# Altium footprint library Wurth_Elektronik_Passive_rev16a.PCBLIB: 810 footprints (part 1 of 51)
Each footprint in its own frame and in the unit in brackets; x right, y up, seen from the top. Pads: shape width x height; smd on the part's side, far side on the other; paste and mask are expansions set on the pad; w line width, h text height; cw(c..) or ccw(c..) is an arc to the next point about the centre after c.
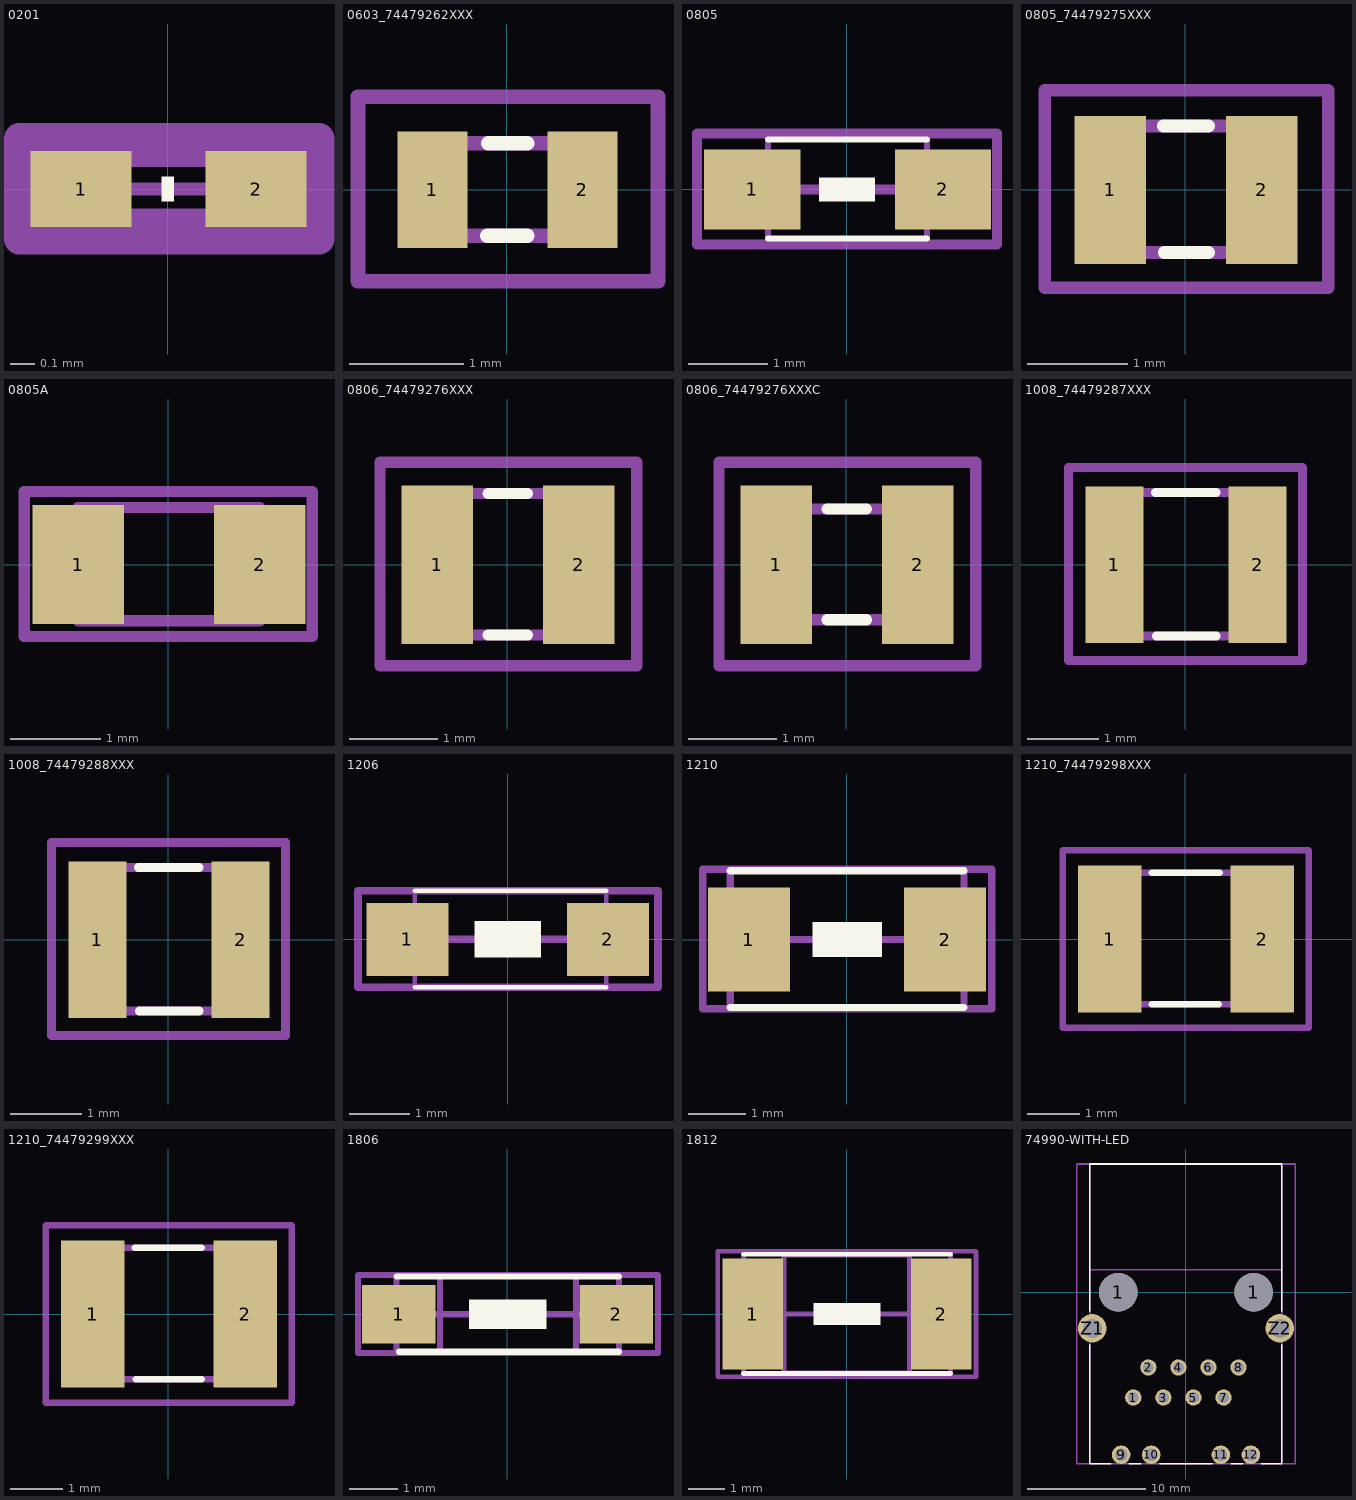
[diagram p0: the footprints below, top view; thin cyan lines are the x and y axes]

## 0201 [mil]
pads (2):
  rect 16x12 smd: 1(-13.78,0) 2(14,0)
Top Overlay:
  rectangle: -0.98,-1.97 1,2
Mechanical 2:
  text ">NAME" at -60,-45 h37.2
Mechanical 4:
  text ">VALUE" at -60,23 h37.2
Mechanical 16:
  lines w2: -13.78,0 14,0
  lines w5: -21.59,6 -21.59,-5.56 22,-5.56 22,6 -21.54,6
Mechanical 27:
  lines w5: -23.62,-7.87 24,-7.87 24,8 -23.62,8 -23.62,-7.87

## 0603_74479262XXX [mil]
pads (2):
  rect 24x40 smd: 1(-25.59,0) 2(26,0)
Top Overlay:
  lines w5: -6.69,-15.75 7,-15.75 ; -6.3,16 7,16
Mechanical 2:
  text ">Name" at -47.24,52 h37.2
Mechanical 4:
  text ">Value" at -51.18,-62.99 h37.2
Mechanical 16:
  lines w5: -31.5,-15.75 32,-15.75 32,16 -31.5,16 -31.5,-15.75
Mechanical 27:
  lines w5: -51.18,-31.5 52,-31.5 52,32 -51.18,32 -51.18,-31.5

## 0805 [mil]
pads (2):
  rect 48x40 smd: 1(-47.24,0) 2(48,0)
Top Overlay:
  rectangle: -13.78,-5.91 14,6
  lines w3: -39.37,-24.61 40,-24.61 ; -39.37,25 40,25
Mechanical 2:
  text ">NAME" at -75,-101.87 h77.5
Mechanical 4:
  text ">VALUE" at -75,38 h77.5
Mechanical 16:
  lines w3: -39.37,-24.61 -39.37,25 ; 40,-24.61 40,25
  lines w5: -51.18,0 48,0
Mechanical 27:
  lines w5: -74.8,-27.56 75,-27.56 75,28 -74.8,28 -74.8,-27.56

## 0805_74479275XXX [mil]
pads (2):
  rect 28x58 smd: 1(-29.53,0) 2(30,0)
Top Overlay:
  lines w5: -8.66,25 9,25 ; -8.27,-24.61 9,-24.61
Mechanical 2:
  text ">Name" at -47.24,56 h37.2
Mechanical 4:
  text ">Value" at -51.18,-70.87 h37.2
Mechanical 16:
  lines w5: -39.37,-24.61 40,-24.61 40,25 -39.37,25 -39.37,-24.61
Mechanical 27:
  lines w5: -55.12,-38.39 56,-38.39 56,39 -55.12,39 -55.12,-38.39

## 0805A [mil]
pads (2):
  rect 40x52 smd: 1(-39.37,0) 2(40,0)
Mechanical 2:
  text ">NAME" at -106.3,-86.61 h77.5
Mechanical 4:
  text ">VALUE" at -106.3,36 h77.5
Mechanical 16:
  lines w5: -39.37,-24.61 40,-24.61 40,25 -39.37,25 -39.37,-24.61
Mechanical 27:
  lines w5: -62.99,-31.5 63,-31.5 63,32 -62.99,32 -62.99,-31.5

## 0806_74479276XXX [mil]
pads (2):
  rect 32x71 smd: 1(-31.5,0) 2(32,0)
Top Overlay:
  lines w5: -8.66,-31.5 9,-31.5 ; -8.66,32 9,32
Mechanical 2:
  text ">Name" at -55.12,63 h37.2
Mechanical 4:
  text ">Value" at -51.18,-78.74 h37.2
Mechanical 16:
  lines w5: -39.37,-31.5 40,-31.5 40,32 -39.37,32 -39.37,-31.5
Mechanical 27:
  lines w5: -57.09,-45.28 58,-45.28 58,46 -57.09,46 -57.09,-45.28

## 0806_74479276XXXC [mil]
pads (2):
  rect 32x71 smd: 1(-31.5,0) 2(32,0)
Top Overlay:
  lines w5: -8.66,-24.61 9,-24.61 ; -8.66,25 9,25
Mechanical 2:
  text ">Name" at -48.43,62 h37.2
Mechanical 4:
  text ">Value" at -48.43,-75.59 h37.2
Mechanical 16:
  lines w5: -39.37,-24.61 40,-24.61 40,25 -39.37,25 -39.37,-24.61
Mechanical 27:
  lines w5: -57.09,-45.28 58,-45.28 58,46 -57.09,46 -57.09,-45.28

## 1008_74479287XXX [mil]
pads (2):
  rect 32x87 smd: 1(-39.37,0) 2(40,0)
Top Overlay:
  lines w5: -16.54,40 17,40 ; -16.14,-39.37 17,-39.37
Mechanical 2:
  text ">Name" at -80.71,78 h62
Mechanical 4:
  text ">Value" at -83.86,-104.33 h62
Mechanical 16:
  lines w5: -49.21,-39.37 50,-39.37 50,40 -49.21,40 -49.21,-39.37
Mechanical 27:
  lines w5: -64.96,-53.15 65,-53.15 65,54 -64.96,54 -64.96,-53.15

## 1008_74479288XXX [mil]
pads (2):
  rect 32x87 smd: 1(-39.37,0) 2(40,0)
Top Overlay:
  lines w5: -16.54,40 17,40 ; -16.14,-39.37 17,-39.37
Mechanical 2:
  text ">Name" at -66.14,81 h62
Mechanical 4:
  text ">Value" at -84.25,-104.72 h62
Mechanical 16:
  lines w5: -49.21,-39.37 50,-39.37 50,40 -49.21,40 -49.21,-39.37
Mechanical 27:
  lines w5: -64.96,-53.15 65,-53.15 65,54 -64.96,54 -64.96,-53.15

## 1206 [mil]
pads (2):
  rect 54x48 smd: 1(-65.94,0) 2(66,0)
Top Overlay:
  rectangle: -21.65,-11.81 22,12
  lines w3: -61.02,-31.5 65,-31.5 ; -61.02,32 65,32
Mechanical 2:
  text ">NAME" at -109.84,-101.87 h77.5
Mechanical 4:
  text ">VALUE" at -109.84,38 h77.5
Mechanical 16:
  lines w3: -61.02,-31.5 -61.02,32 ; 65,-31.5 65,32
  lines w5: -64.96,0 69,0
Mechanical 27:
  lines w5: -98.43,-31.5 99,-31.5 99,32 -98.43,32 -98.43,-31.5

## 1210 [mil]
pads (2):
  rect 56x71 smd: 1(-66.93,0) 2(67,0)
Top Overlay:
  rectangle: -23.62,-11.81 24,12
  lines w5: -79.63,-46.37 80,-46.37 ; -79.63,47 80,47
Mechanical 2:
  text ">NAME" at -107.87,-129.43 h77.5
Mechanical 4:
  text ">VALUE" at -107.87,58 h77.5
Mechanical 16:
  lines w5: -79.63,-46.37 -79.63,47 ; -66.93,0 71,0 ; 80,-46.37 80,47
Mechanical 27:
  lines w5: -98.43,-47.24 99,-47.24 99,48 -98.43,48 -98.43,-47.24

## 1210_74479298XXX [mil]
pads (2):
  rect 48x111 smd: 1(-57.09,0) 2(58,0)
Top Overlay:
  lines w5: -25.2,-49.21 25,-49.21 ; -25.2,50 26,50
Mechanical 2:
  text ">Name" at -105.91,98 h77.5
Mechanical 4:
  text ">Value" at -102.76,-136.61 h77.5
Mechanical 16:
  lines w5: -62.99,-49.21 63,-49.21 63,50 -62.99,50 -62.99,-49.21
Mechanical 27:
  lines w5: -92.52,-66.93 93,-66.93 93,67 -92.52,67 -92.52,-66.93

## 1210_74479299XXX [mil]
pads (2):
  rect 48x111 smd: 1(-57.09,0) 2(58,0)
Top Overlay:
  lines w5: -25.2,50 25,50 ; -24.41,-49.21 25,-49.21
Mechanical 2:
  text ">Name" at -117.32,88 h77.5
Mechanical 4:
  text ">Value" at -96.46,-131.1 h77.5
Mechanical 16:
  lines w5: -62.99,-49.21 63,-49.21 63,50 -62.99,50 -62.99,-49.21
Mechanical 27:
  lines w5: -92.52,-66.93 93,-66.93 93,67 -92.52,67 -92.52,-66.93

## 1806 [mil]
pads (2):
  rect 60x48 smd: 1(-88.58,0) 2(89,0)
Top Overlay:
  rectangle: -31.5,-11.81 32,12
  lines w5: -90.57,31 91,31 ; -88.6,-30.63 91,-30.63
Mechanical 2:
  text ">NAME" at -112.5,-101.87 h77.5
Mechanical 4:
  text ">VALUE" at -112.5,38 h77.5
Mechanical 10:
  lines w5: -55.12,-31.5 56,-31.5 56,32 -55.12,32 -55.12,-31.5
Mechanical 16:
  lines w5: -90.57,-30.63 -90.57,31 ; -88.58,0 87,0 ; 91,-30.63 91,31
Mechanical 27:
  lines w5: -122.05,-31.5 123,-31.5 123,32 -122.05,32 -122.05,-31.5

## 1812 [mil]
pads (2):
  rect 65x119 smd: 1(-100.39,0) 2(101,0)
Top Overlay:
  rectangle: -35.43,-11.81 36,12
  lines w5: -110.25,-63.44 111,-63.44 ; -110.25,64 111,64
Mechanical 2:
  text ">NAME" at -118.11,100 h77.5
Mechanical 4:
  text ">VALUE" at -118.11,-157.48 h77.5
Mechanical 10:
  lines w5: -66.93,-62.99 67,-62.99 67,63 -66.93,63 -66.93,-62.99
Mechanical 16:
  lines w5: -110.25,-63.44 -110.25,64 ; -90.55,0 95,0 ; 111,-63.44 111,64
Mechanical 27:
  lines w5: -137.8,-66.93 138,-66.93 138,67 -137.8,67 -137.8,-66.93

## 74990-WITH-LED [mil]
pads (16):
  round 128 hole 128: 1(-225,0) 1(225,0)
  round 54 hole 36: 1(-175,-350) 2(-125,-250) 3(-75,-350) 4(-25,-250) 5(25,-350) 6(75,-250) 7(125,-350) 8(175,-250)
  round 61.5 hole 41: 9(-215.16,-540.16) 10(-115.16,-540.16) 11(116,-540.16) 12(216,-540.16)
  round 94.5 hole 63: Z1(-311.02,-120.08) Z2(312,-120.08)
Top Overlay:
  lines w5: -318.9,-175 -318.9,-570.87 -250,-570.87 ; -318.9,-62.5 -318.9,426 319,426 319,-62.5 ; -187.5,-570.87 -150,-570.87 ; -87.5,-570.87 88,-570.87 ; 150,-570.87 188,-570.87 ; 250,-570.87 319,-570.87 319,-175
Mechanical 2:
  text ">NAME" at -18.44,487 h77.5
Mechanical 4:
  text ">VALUE" at -18.44,-610.57 h77.5
Mechanical 10:
  lines w5: -318.9,75 319,75 319,426 -318.9,426 -318.9,75
Mechanical 16:
  lines w5: -318.9,-570.87 -318.9,426 319,426 319,-570.87 -318.9,-570.87
  text "1" at -225,-350 h62
  text "8" at 250,-200 h62
Mechanical 27:
  lines w5: -362.5,-570.87 363,-570.87 363,426 -362.5,426 -362.5,-570.87